# Altium footprint library NewLibrary.PcbLib: 125 footprints (part 1 of 8)
Each footprint in its own frame and in the unit in brackets; x right, y up, seen from the top. Pads: shape width x height; smd on the part's side, far side on the other; paste and mask are expansions set on the pad; w line width, h text height; cw(c..) or ccw(c..) is an arc to the next point about the centre after c.
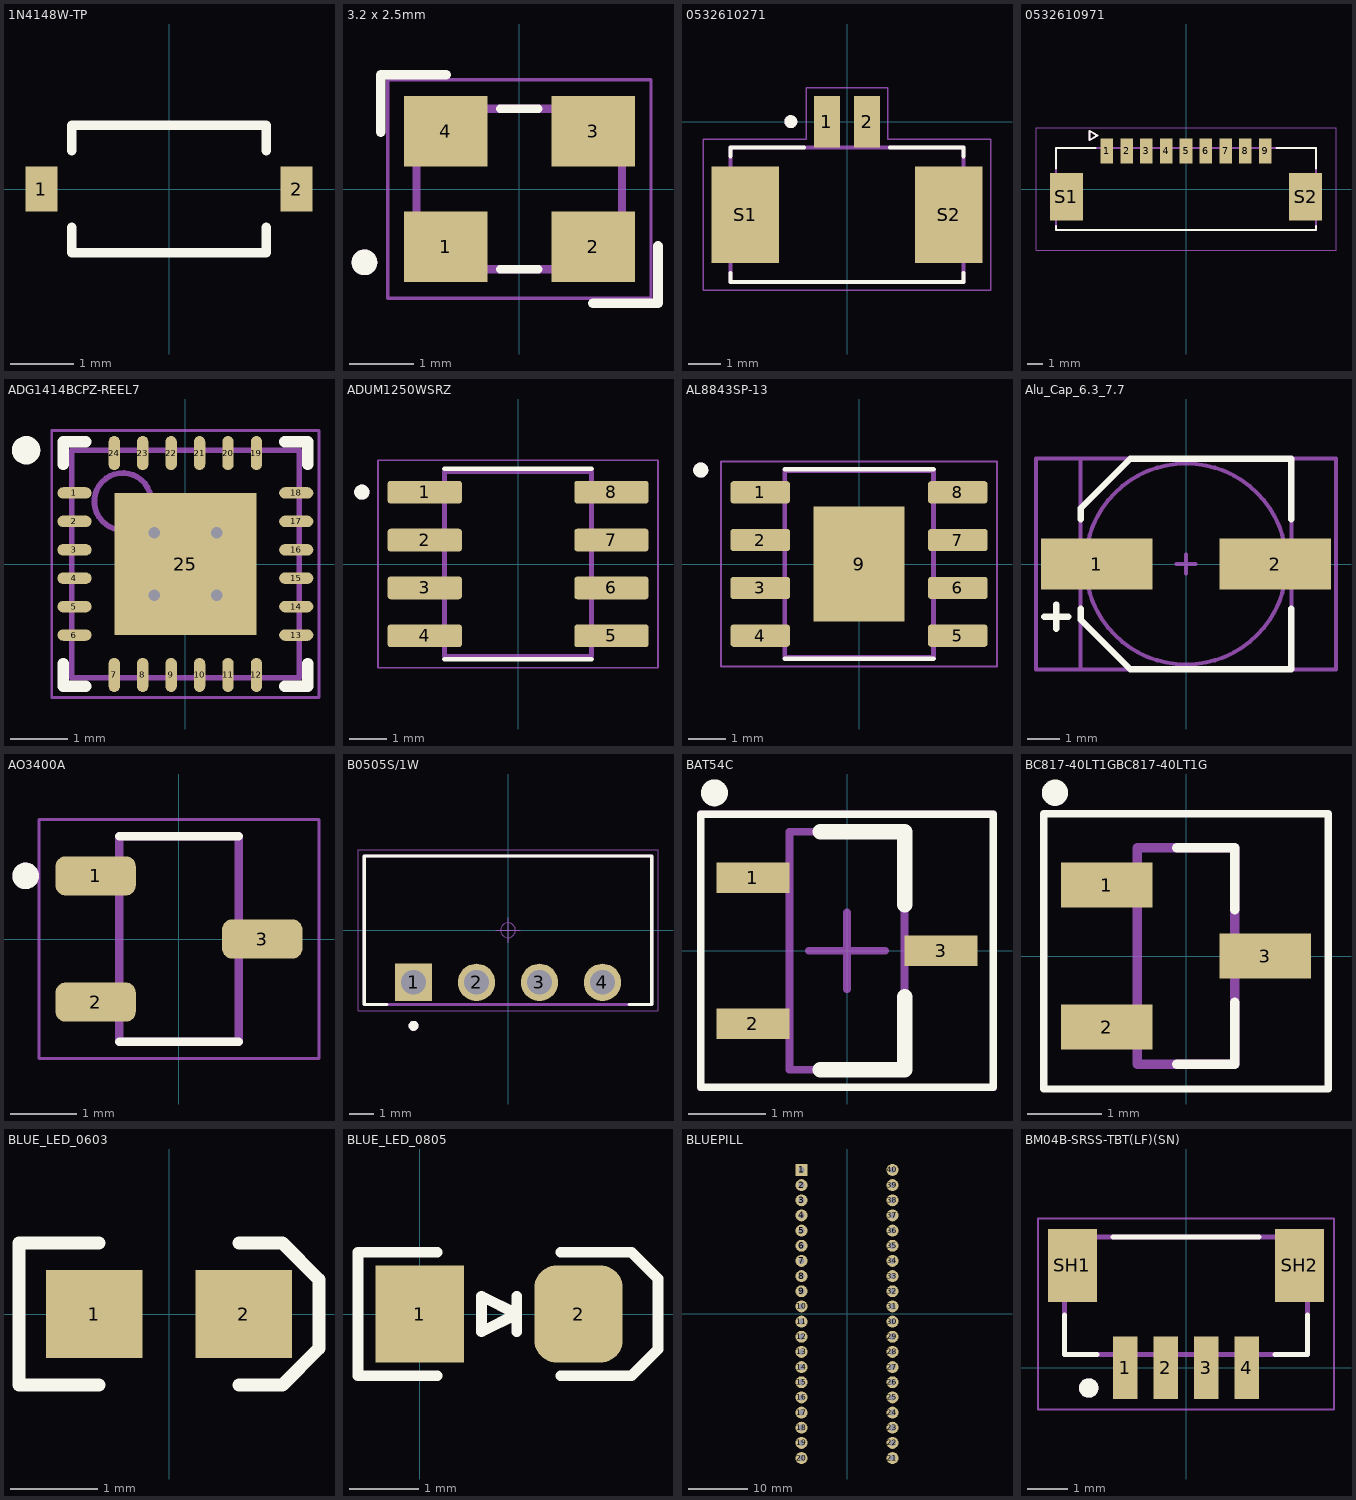
[diagram p0: the footprints below, top view; thin cyan lines are the x and y axes]

## 1N4148W-TP [mil] "DIODE STANDARD 100V 150MA SOD123"
pads (2):
  rect 20x28 smd: 1(-80,0) 2(80,0)
Top Overlay:
  lines w6: -61,-24 -61,-40 61,-40 61,-24 ; -61,24 -61,40 61,40 61,24
3D body "1N4148W-TP.STEP": height 61.02, standoff 0.74, extent -73.85,-29.51 69.85,31.51

## 3.2 x 2.5mm [mm] "Crystal SMD"
pads (4):
  rect 1.3x1.1 smd: 1(-1.15,-0.9) 2(1.15,-0.9) 3(1.15,0.9) 4(-1.15,0.9)
Top Overlay:
  circle w0.2: c-2.413,-1.143 r0.1
  lines w0.127: -0.3,-1.25 0.3,-1.25 ; -0.3,1.25 0.3,1.25
  lines w0.152: -2.159,0.889 -2.159,1.778 -1.143,1.778 ; 1.143,-1.778 2.159,-1.778 2.159,-0.889
Mechanical 13:
  circle w0.2: c-2.413,-1.143 r0.1
  lines w0.127: -1.6,-1.25 1.6,-1.25 1.6,1.25 -1.6,1.25 -1.6,-1.25
Mechanical 15:
  lines w0.05: -2.05,-1.7 2.05,-1.7 2.05,1.7 -2.05,1.7 -2.05,-1.7
3D body "ECS-80-8-33Q-ADS.STEP": height 0.8, standoff 0, extent -1.6,-1.25 1.6,1.25

## 0532610271 [mm] "CONN HEADER SMD R/A 2POS 1.25MM"
pads (4):
  rect 0.8x1.6 smd: 1(-0.625,0) 2(0.625,0)
  rect 2.1x3 smd: S1(-3.175,-2.9) S2(3.175,-2.9)
Top Overlay:
  circle w0.2: c-1.75,0 r0.1
  lines w0.127: -3.625,-4.72 -3.625,-5 3.625,-5 3.625,-4.72 ; -3.625,-1.08 -3.625,-0.8 -1.345,-0.8 ; 1.345,-0.8 3.625,-0.8 3.625,-1.08
Mechanical 13:
  circle w0.2: c-1.75,0 r0.1
  lines w0.127: -3.625,-5 -3.625,-0.8 3.625,-0.8 3.625,-5 -3.625,-5
Mechanical 15:
  lines w0.05: -4.475,-5.25 -4.475,-0.55 -1.275,-0.55 -1.275,1.05 1.275,1.05 1.275,-0.55 4.475,-0.55 4.475,-5.25 -4.475,-5.25
3D body "0532610271--3DModel-STEP-269445.STEP": height 3.4, standoff 0, extent -3.85,-4.826 3.8,0.374

## 0532610971 [mm] "Connector Header Surface Mount, Right Angle 9 position 0.049\" (1.25mm)"
pads (11):
  rect 0.8x1.6 smd mask+0.076: 1(-5,2.4) 2(-3.75,2.4) 3(-2.5,2.4) 4(-1.25,2.4) 5(0,2.4) 6(1.25,2.4) 7(2.5,2.4) 8(3.75,2.4) 9(5,2.4)
  rect 2.1x3 smd mask+0.076: S1(-7.55,-0.5) S2(7.55,-0.5)
Top Overlay:
  lines w0.12: -6.099,3.079 -5.599,3.379 -6.099,3.679 -6.099,3.079
  lines w0.127: -8.2,-2.35 -8.2,-2.6 8.2,-2.6 8.2,-2.35 ; -8.2,1.3 -8.2,2.6 -5.72,2.6 ; 5.72,2.6 8.2,2.6 8.2,1.3
Mechanical 13:
  lines w0.12: -6.099,3.079 -6.099,3.679 -5.599,3.379 -6.099,3.079
  lines w0.127: -8.2,-2.6 8.2,-2.6 8.2,2.6 -8.2,2.6 -8.2,-2.6
Mechanical 15:
  lines w0.05: -9.47,-3.87 9.47,-3.87 9.47,3.87 -9.47,3.87 -9.47,-3.87
3D body "0532610971.x_t": height 3.45, standoff 0.05, extent -8.2,-2.261 8.2,2.939

## ADG1414BCPZ-REEL7 [mm] "8 Circuit IC Switch 1:1 11.5Ohm 24-LFCSP (4x4)"
pads (25):
  oval 0.6x0.2 smd: 1(-1.95,1.25) 2(-1.95,0.75) 3(-1.95,0.25) 4(-1.95,-0.25) 5(-1.95,-0.75) 6(-1.95,-1.25) 13(1.95,-1.25) 14(1.95,-0.75) 15(1.95,-0.25) 16(1.95,0.25) 17(1.95,0.75) 18(1.95,1.25)
  oval 0.2x0.6 smd: 7(-1.25,-1.95) 8(-0.75,-1.95) 9(-0.25,-1.95) 10(0.25,-1.95) 11(0.75,-1.95) 12(1.25,-1.95) 19(1.25,1.95) 20(0.75,1.95) 21(0.25,1.95) 22(-0.25,1.95) 23(-0.75,1.95) 24(-1.25,1.95)
  rect 2.5x2.5 smd: 25(0,0)
via -0.55,0.55 diameter 0.5 hole 0.2
via 0.55,0.55 diameter 0.5 hole 0.2
via -0.55,-0.55 diameter 0.5 hole 0.2
via 0.55,-0.55 diameter 0.5 hole 0.2
Top Overlay:
  circle w0.25: c-2.8,2 r0.125
  lines w0.2: -2.15,-1.75 -2.15,-2.15 -1.75,-2.15 ; -2.15,1.75 -2.15,2.15 -1.75,2.15 ; 1.75,-2.15 2.15,-2.15 2.15,-1.75 ; 1.75,2.15 2.15,2.15 2.15,1.75
Mechanical 13:
  circle w0.1: c-1.1,1.1 r0.5
  lines w0.1: -2,-2 -2,2 2,2 2,-2 -2,-2
Mechanical 15:
  lines w0.05: -2.35,-2.35 -2.35,2.35 2.35,2.35 2.35,-2.35 -2.35,-2.35
  lines w0.1: -0.5,0 0.5,0 ; 0,-0.5 0,0.5
3D body: height 1, standoff 0, extent -2,-2 2,2

## ADUM1250WSRZ [mm] "I2C Digital Isolator 2500Vrms 2 Channel 1Mbps 25kV/µs CMTI 8-SOIC (0.154\", 3.90mm Width)"
pads (8):
  rrect25% 1.97x0.6 smd: 1(-2.475,1.905) 2(-2.475,0.635) 3(-2.475,-0.635) 4(-2.475,-1.905) 5(2.475,-1.905) 6(2.475,-0.635) 7(2.475,0.635) 8(2.475,1.905)
Top Overlay:
  circle w0.2: c-4.145,1.905 r0.1
  lines w0.127: -1.95,-2.525 1.95,-2.525 ; -1.95,2.525 1.95,2.525
Mechanical 13:
  circle w0.2: c-4.145,1.905 r0.1
  lines w0.127: -1.95,-2.45 1.95,-2.45 1.95,2.45 -1.95,2.45 -1.95,-2.45
Mechanical 15:
  lines w0.05: -3.71,-2.75 3.71,-2.75 3.71,2.75 -3.71,2.75 -3.71,-2.75
3D body "step_temp.STEP": height 1.7, standoff 0, extent -3,-2.45 3,2.45

## AL8843SP-13 [mm] "IC LED DRIVER RGLTR PWM 3A 8SO"
pads (9):
  rrect25% 1.58x0.59 smd: 1(-2.625,1.905) 2(-2.625,0.635) 3(-2.625,-0.635) 4(-2.625,-1.905) 5(2.625,-1.905) 6(2.625,-0.635) 7(2.625,0.635) 8(2.625,1.905)
  rect 2.41x3.05 smd paste-3: 9(0,0)
Top Overlay:
  circle w0.2: c-4.205,2.495 r0.1
  lines w0.127: -1.975,-2.52 1.975,-2.52 ; -1.975,2.52 1.975,2.52
Top Paste:
  region: 0.603,-0.762 -0.603,-0.762 -0.603,0.762 0.603,0.762
Mechanical 13:
  circle w0.2: c-4.205,2.495 r0.1
  lines w0.127: -1.975,-2.475 1.975,-2.475 1.975,2.475 -1.975,2.475 -1.975,-2.475
Mechanical 15:
  lines w0.05: -3.665,-2.725 3.665,-2.725 3.665,2.725 -3.665,2.725 -3.665,-2.725
3D body "step_temp.STEP": height 1.63, standoff 0, extent -3,-2.45 3,2.45

## Alu_Cap_6.3_7.7 [mm] "6.3x7.7mm"
pads (2):
  rect 3.5x1.6 smd: 1(-2.8,0) 2(2.8,0)
Top Overlay:
  lines w0.2: -4.445,-1.651 -3.683,-1.651 ; -4.064,-2.032 -4.064,-1.27 ; -3.3,-1.397 -3.3,-1.75 -1.75,-3.3 3.3,-3.3 3.3,-1.397 ; -3.3,1.397 -3.3,1.75 -1.75,3.3 3.3,3.3 3.3,1.397
Mechanical 13:
  circle w0.127: c0,0 r3.15
  lines w0.127: -3.3,-3.3 3.3,-3.3 3.3,3.3 -3.3,3.3 -3.3,-3.3
Mechanical 15:
  lines w0.127: -0.3,0 0.3,0 ; 0,-0.3 0,0.3 ; -4.699,-3.302 4.699,-3.302 4.699,3.302 -4.699,3.302 -4.699,-3.302
3D body "6.3x7.7x2.2.stp": height 7.65, standoff -0.05, extent -3.65,-3.3 3.65,3.3

## AO3400A [mm] "N-Channel 30 V 5.7A (Ta) 1.4W (Ta) Surface Mount SOT-23-3"
pads (3):
  rrect50% 1.21x0.59 smd: 1(-1.255,0.95) 2(-1.255,-0.95) 3(1.255,0)
Top Overlay:
  circle w0.2: c-2.31,0.95 r0.1
  lines w0.127: -0.9,-1.55 0.9,-1.55 ; -0.9,1.55 0.9,1.55
Mechanical 13:
  circle w0.2: c-2.31,0.95 r0.1
  lines w0.127: -0.9,-1.55 0.9,-1.55 0.9,1.55 -0.9,1.55 -0.9,-1.55
Mechanical 15:
  lines w0.05: -2.11,-1.8 2.11,-1.8 2.11,1.8 -2.11,1.8 -2.11,-1.8
3D body "AO3400A--3DModel-STEP-269445.STEP": height 1.25, standoff 0, extent -1.425,-1.475 1.375,1.425

## B0505S/1W [mm]
pads (4):
  rect 1.508x1.508 / inner round 1.508 / far side rect 1.508x1.508 hole 1: 1(-3.81,-2.1)
  round 1.508 hole 1: 2(-1.27,-2.1) 3(1.27,-2.1) 4(3.81,-2.1)
Top Overlay:
  circle w0.2: c-3.81,-3.854 r0.1
  lines w0.127: -4.884,-3 -5.8,-3 -5.8,3 5.8,3 5.8,-3 4.884,-3
Mechanical 13:
  circle w0.2: c-3.81,-3.854 r0.1
Top Component Center:
  circle w0.05: c0,0 r0.3
  lines w0.05: -0.5,0 0.5,0 ; 0,-0.5 0,0.5
Bottom Assembly:
  lines w0.05: -6.05,-3.25 -6.05,3.25 6.05,3.25 6.05,-3.25 -6.05,-3.25
Bottom Courtyard:
  lines w0.127: -5.8,-3 5.8,-3 5.8,3 -5.8,3 -5.8,-3
3D body "B_S-1WR3.stp": height 10.16, standoff -4.1, extent -5.8,-3.013 5.8,2.987

## BAT54C [mm] "Schottky Barrier Diode"
height 1.3
pads (3):
  rect 0.95x0.4 smd: 1(-1.225,0.95) 2(-1.225,-0.95) 3(1.225,0)
Top Overlay:
  circle w0.25: c-1.727,2.057 r0.05
  lines w0.1: -1.905,-1.778 1.905,-1.778 1.905,1.778 -1.905,1.778 -1.905,-1.778
  lines w0.2: -0.35,-1.55 0.75,-1.55 0.75,-0.6 ; -0.35,1.55 0.75,1.55 0.75,0.6
Mechanical 13:
  lines w0.1: -0.75,-1.55 0.75,-1.55 0.75,1.55 -0.75,1.55 -0.75,-1.55
Mechanical 15:
  lines w0.05: -1.925,-1.8 1.925,-1.8 1.925,1.8 -1.925,1.8 -1.925,-1.8
  lines w0.1: -0.5,0 0.5,0 ; 0,-0.5 0,0.5
3D body "BAT54C.step": height 1.3, standoff 0, extent -1.32,-1.55 1.32,1.55

## BC817-40LT1GBC817-40LT1G [mm] "Bipolar (BJT) Transistor NPN 45 V 500 mA 100MHz 300 mW Surface Mount SOT-23-3 (TO-236) / Datasheet /  Datasheet"
pads (3):
  rect 1.23x0.6 smd: 1(-1.06,0.95) 2(-1.06,-0.95) 3(1.06,0)
Top Overlay:
  circle w0.25: c-1.753,2.184 r0.05
  lines w0.1: -1.905,-1.778 -1.905,1.905 -0.953,1.905 -0.476,1.905 0.476,1.905 0.953,1.905 1.905,1.905 1.905,-1.651 1.905,-1.778 -1.905,-1.778
  lines w0.127: -0.125,-1.45 0.65,-1.45 0.65,-0.62 ; -0.125,1.45 0.65,1.45 0.65,0.62
Mechanical 13:
  lines w0.127: -0.65,-1.45 -0.65,1.45 0.65,1.45 0.65,-1.45 -0.65,-1.45
3D body "step_temp.STEP": height 1.11, standoff 0, extent -1.185,-1.46 1.185,1.46

## BLUE_LED_0603 [mm] "SMD"
pads (2):
  rect 1.1x1 smd mask+0.1: 1(-0.851,0.004) 2(0.849,0.004)
Top Overlay:
  lines w0.15: -0.801,-0.806 -1.711,-0.806 -1.711,0.814 -0.801,0.814 ; 0.799,-0.806 1.29,-0.806 1.709,-0.387 1.709,0.395 1.29,0.814 0.799,0.814
3D body "SMD_0603LED_BLUE.STEP": height 0.98, standoff 0.1, extent -0.808,-0.5 0.808,0.5

## BLUE_LED_0805 [mil] "SMD"
pads (2):
  rect 50x55 smd: 1(0,0)
  rrect50% 50x55 smd: 2(90,0)
Top Overlay:
  lines w6: 10,-35 -35,-35 -35,35 10,35 ; 55,-10 55,10 ; 80,-35 120,-35 135,-20 135,0 135,20 120,35 80,35 ; 35,-10 55,0 35,10 35,-10
3D body "User Library-led_0805-blue.step": height 43.31, standoff 0, extent 5.23,-24.61 84.76,24.6

## BLUEPILL [mm]
pads (40):
  rect 2x2 hole 1.02: 1(-7.62,24.13)
  round 2 hole 1.02: 2(-7.62,21.59) 3(-7.62,19.05) 4(-7.62,16.51) 5(-7.62,13.97) 6(-7.62,11.43) 7(-7.62,8.89) 8(-7.62,6.35) 9(-7.62,3.81) 10(-7.62,1.27) 11(-7.62,-1.27) 12(-7.62,-3.81) 13(-7.62,-6.35) 14(-7.62,-8.89) 15(-7.62,-11.43) 16(-7.62,-13.97) 17(-7.62,-16.51) 18(-7.62,-19.05) 19(-7.62,-21.59) 20(-7.62,-24.13) 21(7.62,-24.13) 22(7.62,-21.59) 23(7.62,-19.05) 24(7.62,-16.51) 25(7.62,-13.97) 26(7.62,-11.43) 27(7.62,-8.89) 28(7.62,-6.35) 29(7.62,-3.81) 30(7.62,-1.27) 31(7.62,1.27) 32(7.62,3.81) 33(7.62,6.35) 34(7.62,8.89) 35(7.62,11.43) 36(7.62,13.97) 37(7.62,16.51) 38(7.62,19.05) 39(7.62,21.59) 40(7.62,24.13)
3D body "Blue Pill STM32.step": height 22, standoff 1.9, extent -11.407,-27.16 11.453,31.261
3D body "61302011821.stp": height 8.51, standoff -3.09, extent 6.37,-25.65 8.87,25.65
3D body "61302011821.stp": height 8.51, standoff -3.09, extent -8.87,-25.65 -6.37,25.65

## BM04B-SRSS-TBT(LF)(SN) [mm]
pads (6):
  rect 0.6x1.55 smd: 1(-1.5,0) 2(-0.5,0) 3(0.5,0) 4(1.5,0)
  rect 1.2x1.8 smd: SH1(-2.8,2.525) SH2(2.8,2.525)
Top Overlay:
  circle w0.24: c-2.4,-0.5 r0.12
  lines w0.127: -3,1.3 -3,0.325 -2.2,0.325 ; -1.8,3.225 1.8,3.225 ; 2.2,0.325 3,0.325 3,1.3
Mechanical 13:
  circle w0.24: c-2.4,-0.5 r0.12
  lines w0.127: -3,0.325 -3,3.225 3,3.225 3,0.325 -3,0.325
Mechanical 15:
  lines w0.05: -3.65,-1.025 -3.65,3.675 3.65,3.675 3.65,-1.025 -3.65,-1.025
3D body "BM04B-SRSS-TBT(LF)(SN)--3DModel-STEP-56544.STEP": height 4.35, standoff 0, extent -3,-0.194 3,3.406